# EAGLE library part MCP4822-E/SN (library FarnellThings)
12 Bit DAC
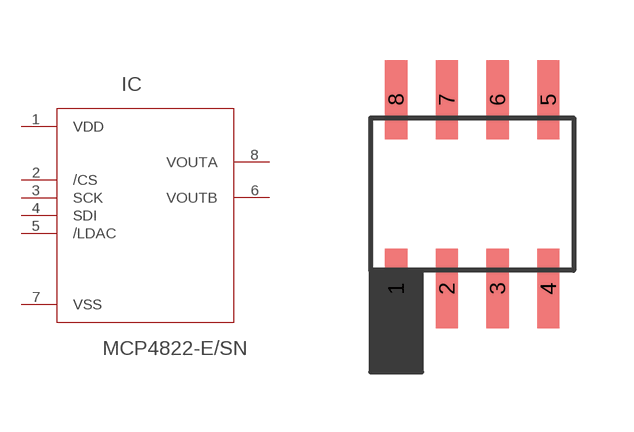
[diagram p13: symbol with the pads of SOIC8-N_MC; footprint SOIC8-N_MC]

Designator prefix IC

## MCP4822-E/SN (DESCRIPTION: 12 Bit DAC; MPN: MCP4822-E/SN; OC_FARNELL: 1439414; OC_NEWARK: 31K2975; PACKAGE: SOIC-8; SUPPLIER: Microchip)  [SOIC8-N_MC]
1  VDD  pwr
2  /CS  in
3  SCK  in
4  SDI  in
5  /LDAC  in
6  VOUTB  in
7  VSS  pwr
8  VOUTA  out

## Footprint SOIC8-N_MC (pad centres in mm)
smd 0.559 x 1.981: 1 -1.905,-2.362; 2 -0.635,-2.362; 3 0.635,-2.362; 4 1.905,-2.362; 5 1.905,2.362; 6 0.635,2.362; 7 -0.635,2.362; 8 -1.905,2.362